# EAGLE library part CP2102/9 (library IC-Conversion)
Description Single-Chip USB to UART Data Transfer - Integrated USB transceiver; no external resistors required - Integrated clock; no external crystal required - Internal 1024-byte programmable ROM for vendor ID, product ID, serial number, power descriptor, release number, and product description strings - EEPROM (CP2102) - EPROM (One-time programmable) (CP2109) - On-chip power-on reset circuit - On-chip voltage regulator - 3.3 V output (CP2102) - 3.45 V output (CP2109) - 100% pin and software compatible with CP2101 - RoHS-compliant 28-pin QFN (5x5 mm) Data Sheet <https://www.silabs.com/documents/public/data-sheets/CP2102-9.pdf>
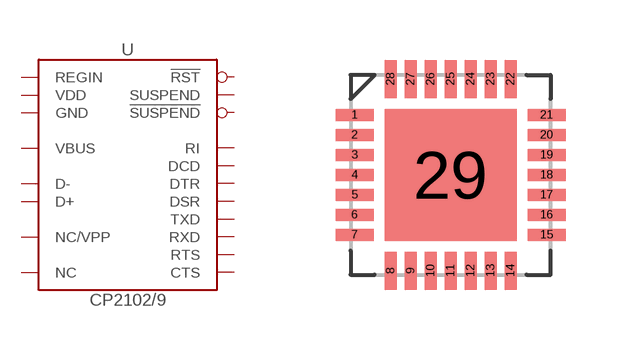
[diagram p0: symbol with the pads of QFN-28; footprint QFN-28]

Designator prefix U

## CP2102/9 (DATASHEET: value; DESCRIPTION: USB Interface, USB-to-UART BRIDGE, USB 2.0, 3 V, 3.6 V, QFN, 28 Pins; DIGIKEY-PART-NUMBER: value; LINK: value; MANUFACTURER: value; MPN: value; TECHNOLOGY: value; UNIT-PRICE: value)  [QFN-28]
1  DCD
2  RI
3  GND
4  D+
5  D-
6  VDD
7  REGIN
8  VBUS
9  !RST
10  NC  nc
11  !SUSPEND
12  SUSPEND
13  NC  nc
14  NC  nc
15  NC  nc
16  NC  nc
17  NC  nc
18  NC/VPP
19  NC  nc
20  NC  nc
21  NC  nc
22  NC  nc
23  CTS
24  RTS
25  RXD
26  TXD
27  DSR
28  DTR
29  GND

## Footprint QFN-28 (pad centres in mm)
smd 0.95 x 0.3: 1 -2.4,1.5; 2 -2.4,1; 3 -2.4,0.5; 4 -2.4,0; 5 -2.4,-0.5; 6 -2.4,-1; 7 -2.4,-1.5; 15 2.4,-1.5; 16 2.4,-1; 17 2.4,-0.5; 18 2.4,0; 19 2.4,0.5; 20 2.4,1; 21 2.4,1.5
smd 0.3 x 0.95: 8 -1.5,-2.4; 9 -1,-2.4; 10 -0.5,-2.4; 11 0,-2.4; 12 0.5,-2.4; 13 1,-2.4; 14 1.5,-2.4; 22 1.5,2.4; 23 1,2.4; 24 0.5,2.4; 25 0,2.4; 26 -0.5,2.4; 27 -1,2.4; 28 -1.5,2.4
smd 3.3 x 3.3: 29 0,0